# Altium footprint library 10k5TurnPot.PcbLib: 1 footprints
Each footprint in its own frame and in the unit in brackets; x right, y up, seen from the top. Pads: shape width x height; smd on the part's side, far side on the other; paste and mask are expansions set on the pad; w line width, h text height; cw(c..) or ccw(c..) is an arc to the next point about the centre after c.
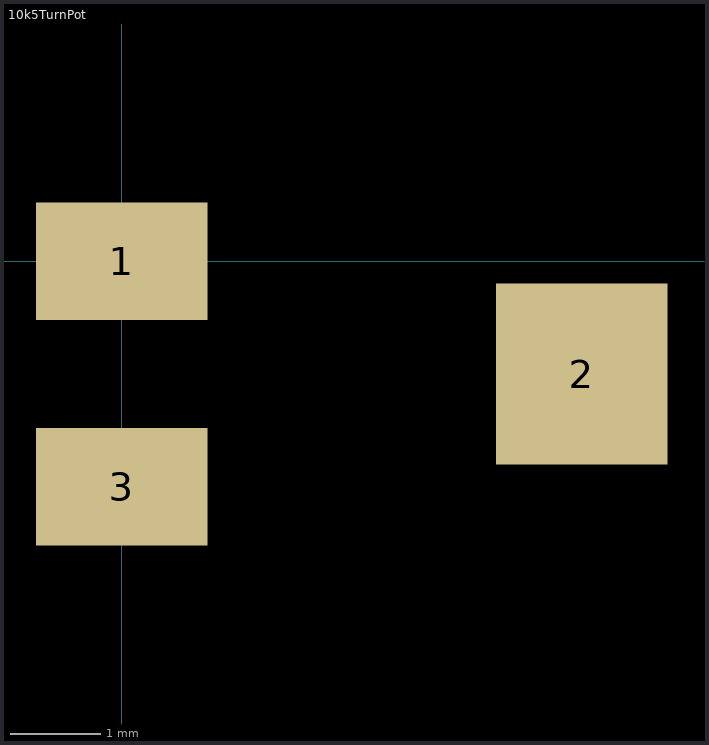
[diagram p0: the footprint, top view; thin cyan lines are the x and y axes]

## 10k5TurnPot [mm]
pads (3):
  rect 1.9x1.3 smd: 1(0,0) 3(0,-2.5)
  rect 1.9x2 smd: 2(5.1,-1.25)
3D body "10k5TurnPot.stp": height 5.29, standoff 0, extent -0.429,-3.683 5.255,1.143